# Altium integrated library My_Library_Transistor.IntLib: 4 symbols
Pins are listed as number, name and electrical type; pins without a type are passive.

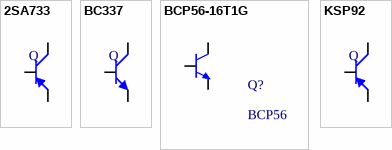
[diagram p0: symbols 2SA733 to KSP92]

## 2SA733
designator Q
footprint TO-92
pins: 1 E, 2 C, 3 B

## BC337
designator Q
footprint TO-92
pins: 1 C, 2 B, 3 E

## BCP56-16T1G
designator Q?, comment BCP56
Trans GP BJT NPN 80V 1A Automotive 4-Pin(3+Tab) SOT-223 T/R; Manufacturer: ON Semiconductor; Manufacturer Part Number: BCP56-16T1G; Max Power Dissipation: 1.5W; Collector Base Voltage (VCBO): 100V; Emitter Base Voltage (VEBO): 5V; Element Configuration: Single; Collector Emitter Saturation Voltage: 500mV; Transition Frequency: 130MHz; Number of Elements: 1; hFE Min: 25; Supplier 1: Digi-Key; RoHS: Yes; Category: BJTs; Stock 1: 31080; Pricing 1: 1=0.48000, 10=0.33400, 25=0.31080, 100=0.16880, 500=0.13768 (USD); Case/Package: SOT-223-4; Number of Pins: 4; Contact Plating: Tin,Matte; Min Operating Temperature: -65°C; Max Operating Temperature: 150°C; Packaging: Tape and Reel; Collector Emitter Voltage (VCEO): 80V; Max Collector Current: 1A; Polarity: NPN; Package Quantity: 1000; Collector Emitter Breakdown Voltage: 80V; Max Breakdown Voltage: 80V; Gain Bandwidth Product: 130MHz; Collector-emitter Voltage-Max: 500mV; Power Dissipation: 1.5W; Series: -; Frequency: 130MHz; Voltage Rating (DC): 80V; Current Rating: 1A; Max Frequency: 130MHz; Length: 6.5mm; Width: 3.5mm; Height: 1.57mm; Radiation Hardening: No; Lead Free: Lead Free; RoHS Compliant: Yes; REACH SVHC: No SVHC; ComponentLink1URL: https://datasheet.ciiva.com/15139/getdatasheetpartid-110207-15139278.pdf?src-supplier=Verical; ComponentLink1Description: https://datasheet.ciiva.com/15139/getdatasheetpartid-110207-15139278.pdf?src-supplier=Verical; ComponentLink2URL: https://datasheet.ciiva.com/976/bcp56t1-d-976689.pdf?src-supplier=Digi-Key; ComponentLink2Description: https://datasheet.ciiva.com/976/bcp56t1-d-976689.pdf?src-supplier=Digi-Key; ComponentLink3URL: https://datasheet.ciiva.com/976/bcp56t1-d-976690.pdf?src-supplier=Digi-Key; ComponentLink3Description: https://datasheet.ciiva.com/976/bcp56t1-d-976690.pdf?src-supplier=Digi-Key; ComponentLink4URL: https://datasheet.ciiva.com/976/bcp56t1-d-976691.pdf?src-supplier=Digi-Key; ComponentLink4Description: https://datasheet.ciiva.com/976/bcp56t1-d-976691.pdf?src-supplier=Digi-Key; ComponentLink5URL: https://datasheet.ciiva.com/16218/bcp56t1-d-16218471.pdf?src-supplier=Future+Electronics; ComponentLink5Description: https://datasheet.ciiva.com/16218/bcp56t1-d-16218471.pdf?src-supplier=Future+Electronics; ComponentLink6URL: https://datasheet.ciiva.com/16478/bcp56t1-d-16478825.pdf?src-supplier=Avnet+Asia; ComponentLink6Description: https://datasheet.ciiva.com/16478/bcp56t1-d-16478825.pdf?src-supplier=Avnet+Asia; ComponentLink7URL: https://datasheet.ciiva.com/11198/bcp56t1-d-11198028.pdf?src-supplier=Avnet; ComponentLink7Description: https://datasheet.ciiva.com/11198/bcp56t1-d-11198028.pdf?src-supplier=Avnet
footprint Model Name (Model Description)
footprint SOT-223 (SOT223, 4-Leads, Body 6.5x3.5mm, Pitch 2.3mm)
pins: 1 B, 2,4 C, 3 E

## KSP92
designator Q
footprint TO-92
pins: 1 E, 2 B, 3 C